# Altium footprint library MSP430G2553_28 SOP.PcbLib: 1 footprints
Each footprint in its own frame and in the unit in brackets; x right, y up, seen from the top. Pads: shape width x height; smd on the part's side, far side on the other; paste and mask are expansions set on the pad; w line width, h text height; cw(c..) or ccw(c..) is an arc to the next point about the centre after c.
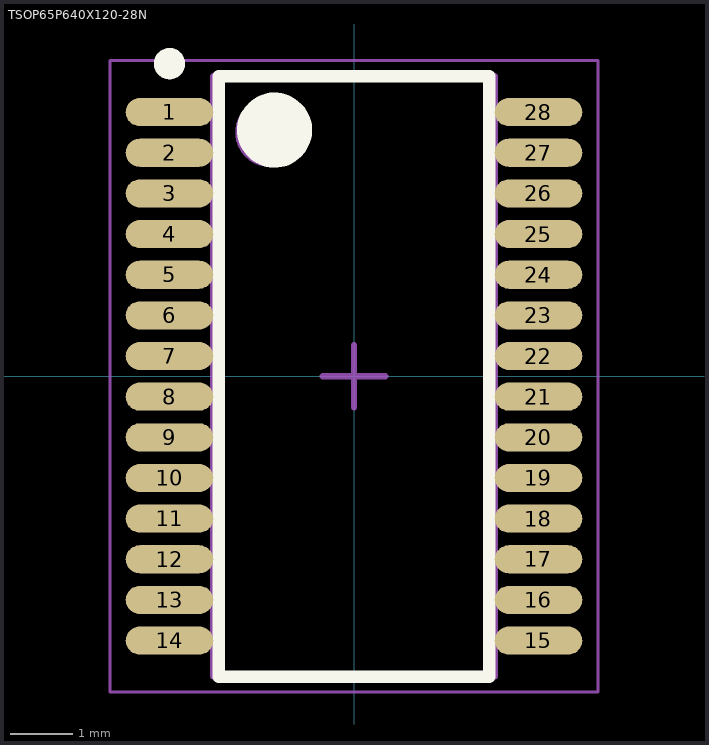
[diagram p0: the footprint, top view; thin cyan lines are the x and y axes]

## TSOP65P640X120-28N [mm] "TSOP, 28-Leads, Body 9.60x4.40mm, Pitch 0.65mm, IPC Medium Density"
height 1.2
pads (28):
  oval 1.4x0.45 smd: 1(-2.95,4.225) 2(-2.95,3.575) 3(-2.95,2.925) 4(-2.95,2.275) 5(-2.95,1.625) 6(-2.95,0.975) 7(-2.95,0.325) 8(-2.95,-0.325) 9(-2.95,-0.975) 10(-2.95,-1.625) 11(-2.95,-2.275) 12(-2.95,-2.925) 13(-2.95,-3.575) 14(-2.95,-4.225) 15(2.95,-4.225) 16(2.95,-3.575) 17(2.95,-2.925) 18(2.95,-2.275) 19(2.95,-1.625) 20(2.95,-0.975) 21(2.95,-0.325) 22(2.95,0.325) 23(2.95,0.975) 24(2.95,1.625) 25(2.95,2.275) 26(2.95,2.925) 27(2.95,3.575) 28(2.95,4.225)
Top Overlay:
  circle w0.25: c-2.95,5 r0.125
  circle w0.6: c-1.27,3.937 r0.3
  lines w0.2: -2.159,-4.8 -2.159,4.8 2.159,4.8 2.159,-4.8 -2.159,-4.8
Mechanical 13:
  circle w0.1: c-1.35,3.9 r0.5
  lines w0.1: -2.25,-4.8 -2.25,4.8 2.25,4.8 2.25,-4.8 -2.25,-4.8
Mechanical 15:
  lines w0.05: -3.9,-5.05 -3.9,5.05 3.9,5.05 3.9,-5.05 -3.9,-5.05
  lines w0.1: -0.5,0 0.5,0 ; 0,-0.5 0,0.5
3D body: height 1.2, standoff 0.15, extent -2.123,-4.8 2.377,4.8